# Altium footprint library E01系列-PcbLib.PcbLib: 9 footprints
Each footprint in its own frame and in the unit in brackets; x right, y up, seen from the top. Pads: shape width x height; smd on the part's side, far side on the other; paste and mask are expansions set on the pad; w line width, h text height; cw(c..) or ccw(c..) is an arc to the next point about the centre after c.
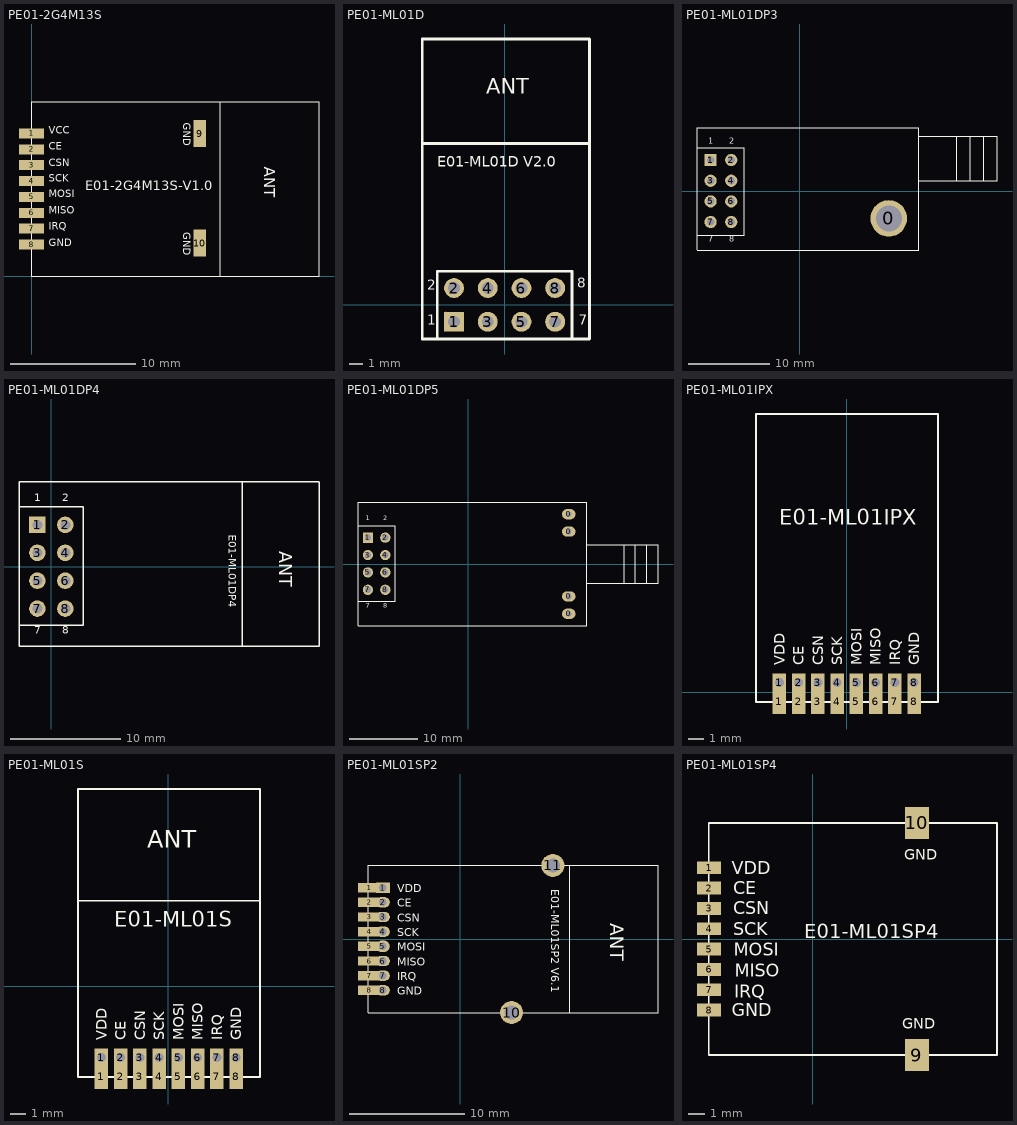
[diagram p0: the footprints below, top view; thin cyan lines are the x and y axes]

## PE01-2G4M13S [mm] "23*14mm-S"
pads (10):
  rect 2x0.8 smd: 1(0,11.445) 2(0,10.175) 3(0,8.905) 4(0,7.635) 5(0,6.365) 6(0,5.095) 7(0,3.825) 8(0,2.555)
  rect 1x2.15 smd: 9(13.462,11.43) 10(13.462,2.667)
Top Overlay:
  lines w0.1: 15.113,0 15.113,13.97 ; 0,0 0,14 23,14 23,0 0,0
  text "VCC" at 1.391,11.227 h1
  text "CE" at 1.391,9.927 h1
  text "CSN" at 1.391,8.627 h1
  text "SCK" at 1.397,7.366 h1
  text "MOSI" at 1.391,6.127 h1
  text "MISO" at 1.391,4.827 h1
  text "IRQ" at 1.391,3.527 h1
  text "GND" at 1.391,2.227 h1
  text "E01-2G4M13S-V1.0" at 4.318,6.604 h1.3
  text "ANT" at 18.288,8.763 h1.5
  text "GND" at 11.938,12.319 h1
  text "GND" at 11.938,3.556 h1

## PE01-ML01D [mm] "22.6mm*12.6mm-D"
pads (8):
  rect 1.5x1.5 hole 0.9: 1(-3.81,-1.27)
  round 1.5 hole 0.9: 2(-3.81,1.27) 3(-1.27,-1.27) 4(-1.27,1.27) 5(1.27,-1.27) 6(1.27,1.27) 7(3.81,-1.27) 8(3.81,1.27)
Top Layer:
  lines w0.254: -4.179,-1.27 ccw(c-5.07,-1.27) -4.44,-0.64 ccw(c-3.81,-0.01) -3.81,-0.901 ; -1.27,1.27 -1.15,1.39
Top Overlay:
  lines w0.2: -6.21,12.162 6.39,12.162 ; -6.21,-2.57 6.39,-2.57 6.39,20.037 -6.21,20.037 -6.21,-2.57 ; -5.08,-2.54 5.08,-2.54 5.08,2.54 -5.08,2.54 -5.08,-2.54
  text "ANT" at -1.397,15.494 h2
  text "E01-ML01D V2.0" at -5.08,10.414 h0.8
  text "1" at -5.842,-1.778 h1.27
  text "2" at -5.842,0.889 h1.27
  text "7" at 5.588,-1.778 h1.27
  text "8" at 5.461,1.016 h1.27

## PE01-ML01DP3 [mm] "27.3mm*15mm-D"
pads (9):
  round 4.5 hole 3.2: 0(10.958,-3.366)
  rect 1.5x1.5 hole 0.9: 1(-10.958,3.81)
  round 1.5 hole 0.9: 2(-8.418,3.81) 3(-10.958,1.27) 4(-8.418,1.27) 5(-10.958,-1.27) 6(-8.418,-1.27) 7(-10.958,-3.81) 8(-8.418,-3.81)
Bottom Layer:
  lines w0.5: -8.418,3.81 -8.356,3.81
Top Overlay:
  lines w0.127: -12.632,-7.246 -12.632,7.754 14.668,7.754 14.668,-7.246 ; -12.632,-5.468 -6.79,-5.468 -6.79,5.327 -12.632,5.327 ; -12.629,-7.254 14.668,-7.254 ; 14.668,1.263 24.268,1.263 24.268,6.724 14.673,6.724 ; 19.315,1.263 19.315,6.724 ; 20.966,1.263 20.966,6.724 ; 22.617,1.263 22.617,6.724
  text "1" at -11.235,5.581 h1.2
  text "2" at -8.695,5.581 h1.2
  text "7" at -11.235,-6.484 h1.2
  text "8" at -8.695,-6.484 h1.2

## PE01-ML01DP4 [mm] "27.3mm*15mm-D"
pads (8):
  rect 1.5x1.5 hole 0.9: 1(-1.27,3.81)
  round 1.5 hole 0.9: 2(1.27,3.81) 3(-1.27,1.27) 4(1.27,1.27) 5(-1.27,-1.27) 6(1.27,-1.27) 7(-1.27,-3.81) 8(1.27,-3.81)
Top Overlay:
  lines w0.127: -2.944,-7.246 -2.944,7.754 24.356,7.754 24.356,-7.246 ; -2.944,-5.341 2.898,-5.341 2.898,5.454 -2.944,5.454 ; -2.941,-7.254 24.356,-7.254 ; 17.371,-7.246 17.371,7.754
  text "8" at 0.993,-6.357 h1.2
  text "7" at -1.547,-6.357 h1.2
  text "2" at 0.993,5.708 h1.2
  text "1" at -1.547,5.708 h1.2
  text "ANT" at 20.32,1.397 h2
  text "E01-ML01DP4" at 16.129,2.921 h0.7

## PE01-ML01DP5 [mm] "33.4mm*18mm-D"
pads (12):
  oval 2x1.5 hole 0.85: 0(14.665,-7.27) 0(14.665,-4.73) 0(14.665,4.73) 0(14.665,7.27)
  rect 1.5x1.5 hole 0.9: 1(-14.665,3.85)
  round 1.5 hole 0.9: 2(-12.125,3.85) 3(-14.665,1.31) 4(-12.125,1.31) 5(-14.665,-1.23) 6(-12.125,-1.23) 7(-14.665,-3.77) 8(-12.125,-3.77)
Top Overlay:
  lines w0.127: -16.115,-5.444 -10.654,-5.444 -10.654,5.605 -16.115,5.605 ; 17.275,-2.777 27.7,-2.777 27.7,2.811 17.286,2.811 ; 22.747,-2.777 22.747,2.811 ; 24.398,-2.777 24.398,2.811 ; 26.049,-2.777 26.049,2.811 ; -16.115,-9 -16.115,9 17.275,9 17.275,-9 -16.115,-9
  text "1" at -14.972,6.113 h1.2
  text "2" at -12.432,6.113 h1.2
  text "7" at -14.972,-6.714 h1.2
  text "8" at -12.432,-6.714 h1.2

## PE01-ML01IPX [mm] "19mm*12mm*1.63mm-S"
pads (16):
  rect 0.9x1.6 smd: 1(-4.445,-0.635) 2(-3.175,-0.635) 3(-1.905,-0.635) 4(-0.635,-0.635) 5(0.635,-0.635) 6(1.905,-0.635) 7(3.175,-0.635) 8(4.445,-0.635)
  rect 0.9x1.2 hole 0.6: 1(-4.445,0.635) 2(-3.175,0.635) 3(-1.905,0.635) 4(-0.635,0.635) 5(0.635,0.635) 6(1.905,0.635) 7(3.175,0.635) 8(4.445,0.635)
Top Overlay:
  lines w0.127: -5.985,-0.635 -5.985,18.365 6.015,18.365 6.015,-0.635 -5.985,-0.635
  text "GND" at 4.791,1.784 h0.7
  text "MISO" at 2.251,1.784 h0.7
  text "MOSI" at 0.981,1.784 h0.7
  text "SCK" at -0.289,1.784 h0.7
  text "CSN" at -1.559,1.784 h0.7
  text "CE" at -2.829,1.784 h0.7
  text "VDD" at -4.099,1.784 h0.7
  text "IRQ" at 3.521,1.784 h0.7
  text "E01-ML01IPX" at -4.445,11.049 h1

## PE01-ML01S [mm] "19mm*12mm*1.63mm-S"
pads (16):
  rect 0.9x1.6 smd: 1(-4.41,-5.975) 2(-3.14,-5.975) 3(-1.87,-5.975) 4(-0.6,-5.975) 5(0.67,-5.975) 6(1.94,-5.975) 7(3.21,-5.975) 8(4.48,-5.975)
  rect 0.9x1.2 hole 0.6: 1(-4.41,-4.705) 2(-3.14,-4.705) 3(-1.87,-4.705) 4(-0.6,-4.705) 5(0.67,-4.705) 6(1.94,-4.705) 7(3.21,-4.705) 8(4.48,-4.705)
Top Overlay:
  lines w0.1: -5.95,5.659 6.05,5.659
  lines w0.127: -5.95,-5.975 -5.95,13.025 6.05,13.025 6.05,-5.975 -5.95,-5.975
  text "GND" at 4.826,-3.556 h0.7
  text "MISO" at 2.286,-3.556 h0.7
  text "MOSI" at 1.016,-3.556 h0.7
  text "SCK" at -0.254,-3.556 h0.7
  text "CSN" at -1.524,-3.556 h0.7
  text "CE" at -2.794,-3.556 h0.7
  text "VDD" at -4.064,-3.556 h0.7
  text "IRQ" at 3.556,-3.556 h0.7
  text "ANT" at -1.397,8.763 h2
  text "E01-ML01S" at -3.556,3.937 h1

## PE01-ML01SP2 [mm] "25.1mm*12.8mm*2.10mm-S"
pads (18):
  rect 2x0.8 smd: 1(-7.874,4.445) 2(-7.873,3.175) 3(-7.873,1.905) 4(-7.873,0.635) 5(-7.873,-0.635) 6(-7.873,-1.905) 7(-7.873,-3.175) 8(-7.873,-4.445)
  rect 1.2x0.9 hole 0.65: 1(-6.721,4.445)
  oval 1.2x0.9 hole 0.65: 2(-6.721,3.175) 3(-6.721,1.905) 4(-6.721,0.635) 6(-6.721,-1.905) 7(-6.721,-3.175) 8(-6.721,-4.445)
  oval 1.2x1 hole 0.65: 5(-6.721,-0.635)
  round 2 hole 1.2: 10(4.42,-6.365) 11(8,6.365)
Top Layer:
  lines w0.22: -6.73,-0.255 -6.73,-0.56 ccw(c-6.662,-0.56) -6.71,-0.608 ; -6.671,0.685 -6.721,0.635 cw(c-6.6,0.514) -6.6,0.685 ; -6.653,-0.567 -6.721,-0.635 ; -6.404,3.175 -6.721,3.175 -6.329,3.175 ; -6.327,-0.472 cw(c-6.721,-0.077) -6.721,-0.635 ; -6.721,-0.635 ccw(c-6.748,-0.608) -6.71,-0.608 ; -6.721,-0.635 ccw(c-6.748,-0.608) -6.71,-0.608
Bottom Layer:
  lines w0.6: -7.65,-4.445 -7.62,-4.475 -6.751,-4.475 -6.721,-4.445
Top Overlay:
  lines w0.1: 9.48,-6.365 9.48,6.365 ; -8,-6.365 17.1,-6.365 17.1,6.365 -8,6.365 -8,-6.365
  text "ANT" at 12.574,1.382 h2
  text "E01-ML01SP2 V6.1" at 7.874,4.318 h0.7
  text "VDD" at -5.46,4.049 h0.7
  text "CE" at -5.46,2.779 h0.7
  text "CSN" at -5.46,1.509 h0.7
  text "SCK" at -5.46,0.239 h0.7
  text "MOSI" at -5.46,-1.031 h0.7
  text "MISO" at -5.46,-2.301 h0.7
  text "IRQ" at -5.46,-3.571 h0.7
  text "GND" at -5.46,-4.841 h0.7

## PE01-ML01SP4 [mm] "18mm*14.5mm*2.4mm-S"
pads (10):
  rect 1.5x0.8 smd: 1(-6.497,4.453) 2(-6.497,3.183) 3(-6.497,1.913) 4(-6.497,0.643) 5(-6.497,-0.627) 6(-6.497,-1.897) 7(-6.497,-3.167) 8(-6.497,-4.437)
  rect 1.5x2 smd: 9(6.497,-7.25) 10(6.497,7.25)
Top Overlay:
  lines w0.1: -6.503,-7.25 11.497,-7.25 11.497,7.25 -6.503,7.25 -6.503,-7.25
  text "E01-ML01SP4" at -0.543,0.06 h0.9
  text "VDD" at -5.068,4.06 h0.8
  text "GND" at 5.689,4.942 h0.65
  text "CE" at -4.988,2.8 h0.8
  text "CSN" at -4.988,1.55 h0.8
  text "SCK" at -4.968,0.23 h0.8
  text "MOSI" at -4.948,-1.05 h0.8
  text "MISO" at -4.898,-2.35 h0.8
  text "IRQ" at -4.918,-3.66 h0.8
  text "GND" at -5.068,-4.84 h0.8
  text "GND" at 5.562,-5.599 h0.65